# EAGLE library part RASPBERRYPI (library raspberrypi)
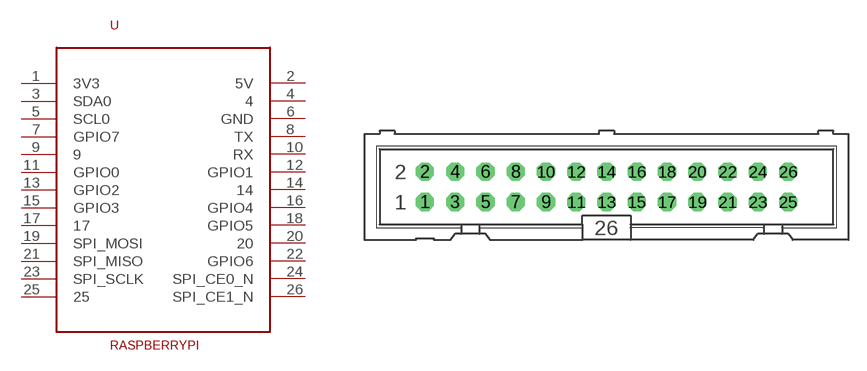
[diagram p0: symbol with the pads of ML26; footprint ML26]

Designator prefix -

## RASPBERRYPI  [ML26]
1  3V3  sup
2  5V  sup
3  SDA0
4  4  nc
5  SCL0
6  GND  sup
7  GPIO7
8  TX
9  9  nc
10  RX
11  GPIO0
12  GPIO1
13  GPIO2
14  14  nc
15  GPIO3
16  GPIO4
17  17  nc
18  GPIO5
19  SPI_MOSI
20  20  nc
21  SPI_MISO
22  GPIO6
23  SPI_SCLK
24  SPI_CE0_N
25  25  nc
26  SPI_CE1_N

## Footprint ML26 (pad centres in mm)
HARTING
drill 0.5 pad 1.524 octagon: 1 -15.24,-1.27; 2 -15.24,1.27; 3 -12.7,-1.27; 4 -12.7,1.27; 5 -10.16,-1.27; 6 -10.16,1.27; 7 -7.62,-1.27; 8 -7.62,1.27; 9 -5.08,-1.27; 10 -5.08,1.27; 11 -2.54,-1.27; 12 -2.54,1.27; 13 0,-1.27; 14 0,1.27; 15 2.54,-1.27; 16 2.54,1.27; 17 5.08,-1.27; 18 5.08,1.27; 19 7.62,-1.27; 20 7.62,1.27; 21 10.16,-1.27; 22 10.16,1.27; 23 12.7,-1.27; 24 12.7,1.27; 25 15.24,-1.27; 26 15.24,1.27